# Altium footprint library Anaren.PcbLib: 4 footprints
Each footprint in its own frame and in the unit in brackets; x right, y up, seen from the top. Pads: shape width x height; smd on the part's side, far side on the other; paste and mask are expansions set on the pad; w line width, h text height; cw(c..) or ccw(c..) is an arc to the next point about the centre after c.
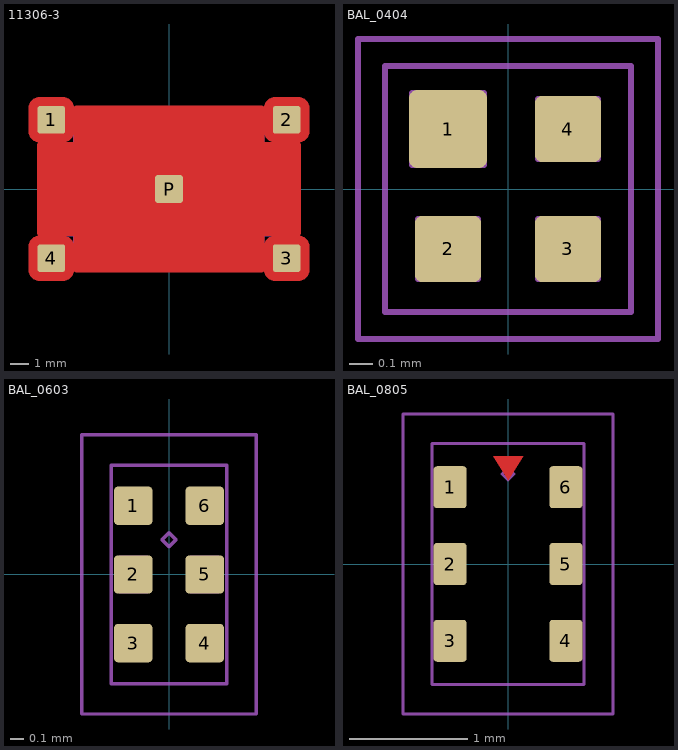
[diagram p0: the footprints below, top view; thin cyan lines are the x and y axes]

## 11306-3 [mil]
pads (5):
  rrect20% 60x60 smd paste-200 mask+1.5: 1(-255,150) 2(255,150) 3(255,-150) 4(-255,-150) P(0,0)
Top Layer:
  pour cut-out: 231,199 279,199 283.97,199 293.16,195.19 300.19,188.16 304,178.97 304,174 304,126 304,121.03 300.19,111.84 293.16,104.81 283.97,101 279,101 231,101 226.03,101 216.84,104.81 209.81,111.84 206,121.03 206,126 206,174 206,178.97 209.81,188.16 216.84,195.19 226.03,199
  pour cut-out: 231,-101 279,-101 283.97,-101 293.16,-104.81 300.19,-111.84 304,-121.03 304,-126 304,-174 304,-178.97 300.19,-188.16 293.16,-195.19 283.97,-199 279,-199 231,-199 226.03,-199 216.84,-195.19 209.81,-188.16 206,-178.97 206,-174 206,-126 206,-121.03 209.81,-111.84 216.84,-104.81 226.03,-101
  pour cut-out: -279,-101 -231,-101 -226.03,-101 -216.84,-104.81 -209.81,-111.84 -206,-121.03 -206,-126 -206,-174 -206,-178.97 -209.81,-188.16 -216.84,-195.19 -226.03,-199 -231,-199 -279,-199 -283.97,-199 -293.16,-195.19 -300.19,-188.16 -304,-178.97 -304,-174 -304,-126 -304,-121.03 -300.19,-111.84 -293.16,-104.81 -283.97,-101
  pour cut-out: -279,199 -231,199 -226.03,199 -216.84,195.19 -209.81,188.16 -206,178.97 -206,174 -206,126 -206,121.03 -209.81,111.84 -216.84,104.81 -226.03,101 -231,101 -279,101 -283.97,101 -293.16,104.81 -300.19,111.84 -304,121.03 -304,126 -304,174 -304,178.97 -300.19,188.16 -293.16,195.19 -283.97,199
  region: -206,175 -206,175.99 -205.24,177.83 -203.83,179.24 -201.99,180 -201,180 201,180 201.99,180 203.83,179.24 205.24,177.83 206,175.99 206,175 206,101 280,101 280.99,101 282.83,100.24 284.24,98.83 285,96.99 285,96 285,-96 285,-96.99 284.24,-98.83 282.83,-100.24 280.99,-101 280,-101 206,-101 206,-175 206,-175.99 205.24,-177.83 203.83,-179.24 201.99,-180 201,-180 -201,-180 -201.99,-180 -203.83,-179.24 -205.24,-177.83 -206,-175.99 -206,-175 -206,-101 -280,-101 -280.99,-101 -282.83,-100.24 -284.24,-98.83 -285,-96.99 -285,-96 -285,96 -285,96.99 -284.24,98.83 -282.83,100.24 -280.99,101 -280,101 -206,101
Top Paste:
  region: 25,25 -25,25 -25,-25 25,-25
  region: 230,170 230,125 275,125 275,170
  region: 275,-125 230,-125 230,-170 275,-170
  region: -230,-170 -230,-125 -275,-125 -275,-170
  rectangle: -275,125 -230,170
  region: 90,25 40,25 40,-25 90,-25
  region: 155,25 105,25 105,-25 155,-25
  region: 220,25 170,25 170,-25 220,-25
  region: 275,25 235,25 235,-25 275,-25
  region: 235,90 235,40 275,40 275,90
  region: 170,90 170,40 220,40 220,90
  region: 105,90 105,40 155,40 155,90
  region: 40,90 40,40 90,40 90,90
  region: -25,90 -25,40 25,40 25,90
  region: 100,165 100,105 140,105 140,165
  region: 40,165 40,105 85,105 85,165
  region: -25,165 -25,105 25,105 25,165
  region: 155,165 155,105 195,105 195,165
  rectangle: -90,-25 -40,25
  rectangle: -155,-25 -105,25
  rectangle: -220,-25 -170,25
  rectangle: -275,-25 -235,25
  region: -235,-90 -235,-40 -275,-40 -275,-90
  region: -170,-90 -170,-40 -220,-40 -220,-90
  region: -105,-90 -105,-40 -155,-40 -155,-90
  region: -40,-90 -40,-40 -90,-40 -90,-90
  region: -100,-165 -100,-105 -140,-105 -140,-165
  region: -40,-165 -40,-105 -85,-105 -85,-165
  region: -155,-165 -155,-105 -195,-105 -195,-165
  region: 25,-40 -25,-40 -25,-90 25,-90
  region: 90,-40 40,-40 40,-90 90,-90
  region: 155,-40 105,-40 105,-90 155,-90
  region: 220,-40 170,-40 170,-90 220,-90
  region: 275,-40 235,-40 235,-90 275,-90
  rectangle: -90,40 -40,90
  rectangle: -155,40 -105,90
  rectangle: -220,40 -170,90
  rectangle: -275,40 -235,90
  region: 100,-105 100,-165 140,-165 140,-105
  region: 40,-105 40,-165 85,-165 85,-105
  region: -25,-105 -25,-165 25,-165 25,-105
  region: 155,-105 155,-165 195,-165 195,-105
  region: -100,105 -100,165 -140,165 -140,105
  region: -40,105 -40,165 -85,165 -85,105
  region: -155,105 -155,165 -195,165 -195,105
Top Component Outline:
  lines w1: -280,-130 cw(c-280,-175) -235,-175 ; -280,-125 -230,-125 -230,-175 ; -280,-101 -206,-101 -206,-175 ; -280,-20 ccw(c-280,0) -260,0 ccw(c-280,0) -280,20 ; -280,0 280,0 ; -280,101 -206,101 -206,175 ; -280,125 -230,125 -230,175 ; -280,130 ccw(c-280,175) -235,175 ; -280,150 -230,150 ; -120,-175 cw(c-100,-175) -100,-155 cw(c-100,-175) -80,-175 ; -120,175 ccw(c-100,175) -100,155 ccw(c-100,175) -80,175 ; 0,-175 0,175 ; 80,-175 cw(c100,-175) 100,-155 cw(c100,-175) 120,-175 ; 80,175 ccw(c100,175) 100,155 ccw(c100,175) 120,175 ; 206,-175 206,-101 280,-101 ; 206,175 206,101 280,101 ; 230,-175 230,-125 280,-125 ; 230,175 230,125 280,125 ; 235,-175 cw(c280,-175) 280,-130 ; 235,175 ccw(c280,175) 280,130 ; 280,-20 cw(c280,0) 260,0 cw(c280,0) 280,20 ; -280,-175 280,-175 280,175 -280,175 -280,-175
3D body: height 75, standoff 1, extent -280,-175 280,175

## BAL_0404 [mil] "0404 Balun"
pads (4):
  rrect20% 13x13 smd mask+1.5: 1(-10,10)
  rrect20% 11x11 smd mask+1.5: 2(-10,-10) 3(10,-10) 4(10,10)
Top Designator:
  text ".Designator" at -72.94,-7.14 h20
Top Courtyard:
  lines w1: -25,-25 -25,25 25,25 25,-25 -25,-25
Top Component Outline:
  lines w1: -20.47,-20.47 -20.47,20.47 20.47,20.47 20.47,-20.47 -20.47,-20.47 ; -16,4 -4,4 -4,16 -16,16 -16,4 ; -15,-15 -15,-5 -5,-5 -5,-15 -15,-15 ; 5,-15 15,-15 15,-5 5,-5 5,-15 ; 5,5 5,15 15,15 15,5 5,5
3D body: height 22, standoff 0.5, extent -20.47,-20.47 20.47,20.47
3D body: height 22.5, standoff 5, extent -15,2 -2,15

## BAL_0603 [mil] "0603 Balun"
pads (6):
  rrect20% 11x11 smd mask+1.5: 1(-10.24,19.68) 2(-10.24,0) 3(-10.24,-19.68) 4(10.24,-19.68) 5(10.24,0) 6(10.24,19.68)
Top Solder:
  region: 0,35 7,46 -7,46
Top Designator:
  text ".Designator" at 12.5,-127.64 h35
Top Courtyard:
  lines w1: -25,-40 -25,40 25,40 25,-40 -25,-40
Top Component Outline:
  lines w1: -16.54,-31.3 16.54,-31.3 16.54,31.3 -16.54,31.3 -16.54,-31.3 ; -14.17,-24.61 -6.3,-24.61 -6.3,-14.76 -14.17,-14.76 -14.17,-24.61 ; -14.17,-4.92 -6.3,-4.92 -6.3,4.92 -14.17,4.92 -14.17,-4.92 ; -14.17,14.76 -14.17,24.61 -6.3,24.61 -6.3,14.76 -14.17,14.76 ; -2,10 0,12 2,10 0,8 -2,10 ; 6.3,-24.61 6.3,-14.76 14.17,-14.76 14.17,-24.61 6.3,-24.61 ; 6.3,-4.92 14.17,-4.92 14.17,4.92 6.3,4.92 6.3,-4.92 ; 6.3,14.76 14.17,14.76 14.17,24.61 6.3,24.61 6.3,14.76
3D body: height 26.78, standoff 5, extent -6.5,9 6.5,22
3D body: height 26.77, standoff 0.5, extent -16.54,-31.3 16.54,31.3

## BAL_0805 [mil] "0805 Balun"
pads (6):
  rrect20% 11x14 smd mask+1.5: 1(-19.29,25.59) 2(-19.29,0) 3(-19.29,-25.59) 4(19.29,-25.59) 5(19.29,0) 6(19.29,25.59)
Top Layer:
  region: 0,28 5,36 -5,36
Top Designator:
  text ".Designator" at 12.5,-127.64 h35
Top Courtyard:
  lines w1: -35,-50 -35,50 35,50 35,-50 -35,-50
Top Component Outline:
  lines w1: -25.39,-40.16 25.39,-40.16 25.39,40.16 -25.39,40.16 -25.39,-40.16 ; -23.62,-31.5 -14.96,-31.5 -14.96,-19.69 -23.62,-19.69 -23.62,-31.5 ; -23.62,-5.91 -14.96,-5.91 -14.96,5.91 -23.62,5.91 -23.62,-5.91 ; -23.62,19.69 -14.96,19.69 -14.96,31.5 -23.62,31.5 -23.62,19.69 ; -2,30 0,28 2,30 0,32 -2,30 ; 14.96,-31.5 23.62,-31.5 23.62,-19.69 14.96,-19.69 14.96,-31.5 ; 14.96,-5.91 14.96,5.91 23.62,5.91 23.62,-5.91 14.96,-5.91 ; 14.96,19.69 23.62,19.69 23.62,31.5 14.96,31.5 14.96,19.69
3D body: height 26.77, standoff 0.5, extent -25.39,-40.16 25.39,40.16
3D body: height 26.78, standoff 5, extent -6.5,24 6.5,37